# Altium footprint library Conn_JST_Sales_America_Inc._SM04B-GHS-TB_LF_SN_eec_0.PcbLib: 1 footprints
Each footprint in its own frame and in the unit in brackets; x right, y up, seen from the top. Pads: shape width x height; smd on the part's side, far side on the other; paste and mask are expansions set on the pad; w line width, h text height; cw(c..) or ccw(c..) is an arc to the next point about the centre after c.
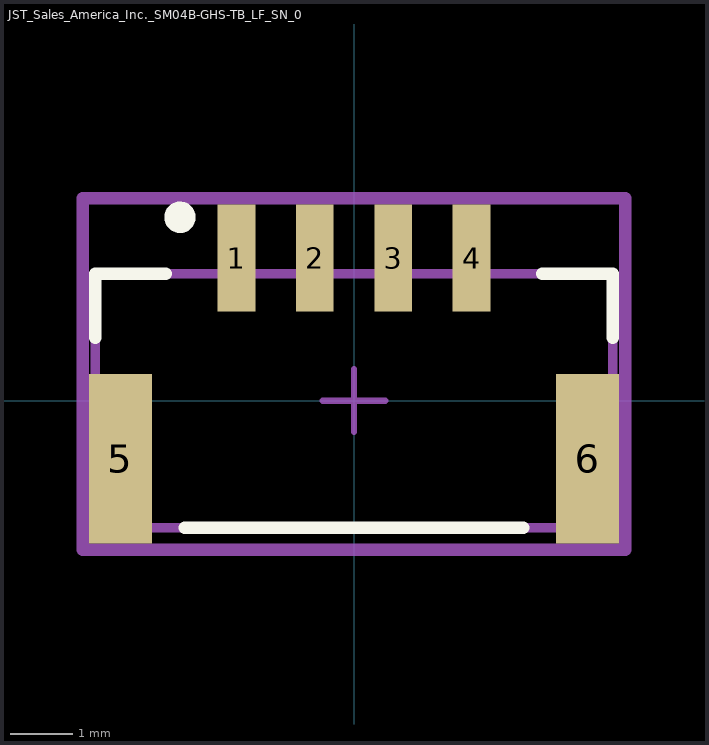
[diagram p0: the footprint, top view; thin cyan lines are the x and y axes]

## JST_Sales_America_Inc._SM04B-GHS-TB_LF_SN_0 [mm]
pads (6):
  rect 0.6x1.7 smd paste+0 mask+0: 1(-1.875,2.275) 2(-0.625,2.275) 3(0.625,2.275) 4(1.875,2.275)
  rect 1x2.7 smd paste+0 mask+0: 5(-3.725,-0.925) 6(3.725,-0.925)
Top Overlay:
  circle w0.25: c-2.775,2.925 r0.125
  lines w0.2: -4.125,1 -4.125,2.025 -3,2.025 ; -2.7,-2.025 2.7,-2.025 ; 3,2.025 4.125,2.025 4.125,1
Mechanical 10:
  lines w0.2: -4.325,-2.375 4.325,-2.375 4.325,3.225 -4.325,3.225 -4.325,-2.375
  text ".Designator" at 0,0.425 h1
Mechanical 12:
  lines w0.15: -4.125,-2.025 4.125,-2.025 4.125,2.025 -4.125,2.025 -4.125,-2.025
Mechanical 15:
  lines w0.1: -0.5,0 0.5,0 ; 0,-0.5 0,0.5
  lines w0.2: -4.325,-2.375 4.325,-2.375 4.325,3.225 -4.325,3.225 -4.325,-2.375
3D body "3dmodel.step": height 0.25, standoff 0, extent -4.325,-2.375 4.325,3.225